# Altium schematic symbol library 43nH_inductor_0805Components - 15.03.22 - 13.15.SchLib: 1 symbol
Pins are listed as number, name and electrical type; pins without a type are passive.

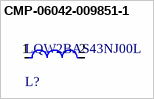
[diagram p0: symbol CMP-06042-009851-1]

## CMP-06042-009851-1
designator L?, comment LQW2BAS43NJ00L
Wire Wound RF Inductor 43nH ±5% 500mA 0.34Ω 0805 (2015); DC Resistance (DCR): 340mR; Test Frequency: 200MHz; Shielding: Unshielded; Self Resonant Frequency: 1.8GHz; Core Material: Air; Q Factor: 60; Case Code (Metric): 2015; Weight: 0.000494oz; DC Current: 500mA; Depth: 1.73mm; Military Standard: Not; Height: 1.42mm; Package Quantity: 2000; Case/Package: 0805; Termination: SMD/SMT; Tolerance: 5%; Min Operating Temperature: -55°C; Radiation Hardening: No; Mount: Surface Mount; Height - Seated (Max): 0.06inch; Inductance: 43nH; Case Code (Imperial): 0805; Packaging: Tape and Reel; Max DC Current: 500mA; Width: 0.06inch; Length: 0.082inch; Current Rating: 500mA; Max Operating Temperature: 125°C; Resistor Type: Wirewound
footprint FP-LQW2BAN_00-MFG
pins: 1, 2